# Altium integrated library PCB_Project1.IntLib: 17 symbols
Pins are listed as number, name and electrical type; pins without a type are passive.

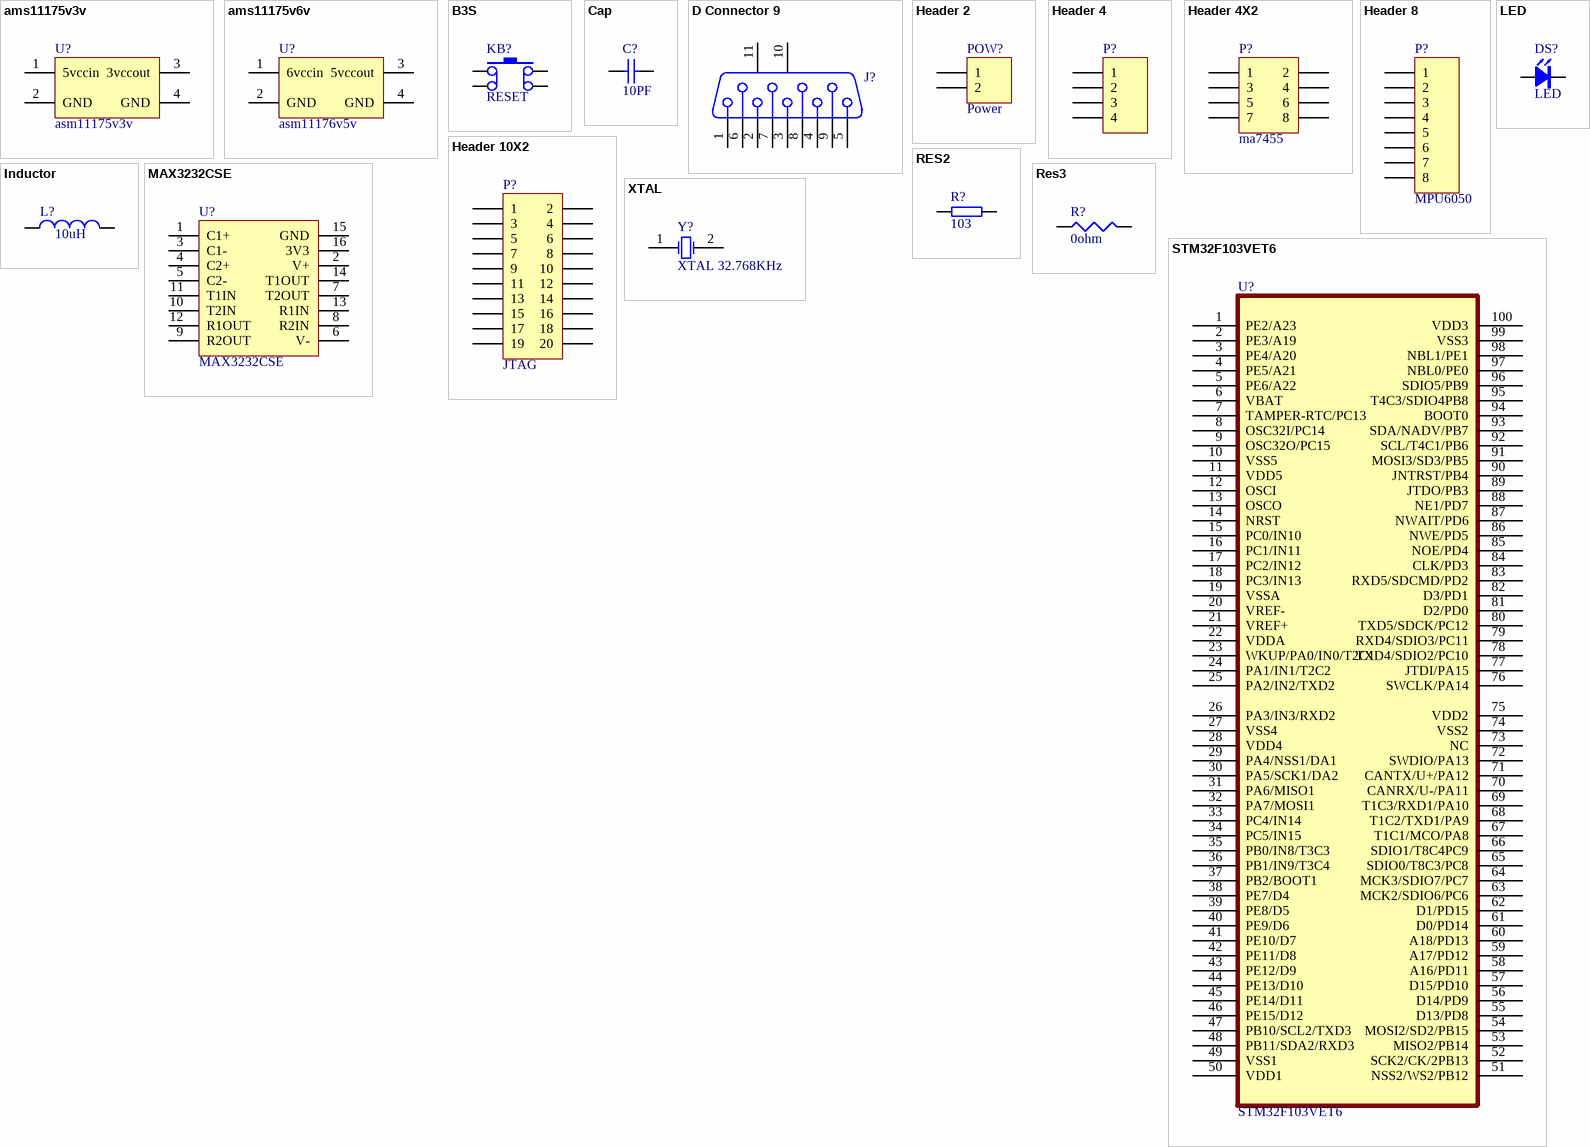
[diagram p0: symbols ams11175v3v to XTAL]

## ams11175v3v
designator U?, comment asm11175v3v
5vת3v
footprint ams11175v3v (6vת5v)
pins: 1 5vccin (power), 2 GND (power), 3 3vccout (power), 4 GND (power)

## ams11175v6v
designator U?, comment asm11176v5v
6vת5v
footprint ams11176v5v (6vת5v)
pins: 1 6vccin (power), 2 GND (power), 3 5vccout (power), 4 GND (power)

## B3S
designator KB?, comment RESET
REV: *; REF: *; DESIG: *; BOI: *; FAB: *; DEV: *; VAL: *
footprint B3F
footprint JC5
footprint KB2
footprint KB1
pins: 1 T1, 2 T2, 3 T3, 4 T4
2 alternate drawings of the same symbol

## Cap
designator C?, comment 10PF
Capacitor; Published: 8-Jun-2000; LatestRevisionDate: 17-Jul-2002; LatestRevisionNote: Re-released for DXP Platform.; PackageReference: RAD-0.3; Publisher: Altium Limited; Value: 10PF
footprint RAD-0.3 (Capacitor; 2 Leads)
footprint VP32-3.2 (Capacitor, Ceramic, Thru-Hole, Dipped Radial; Body 5.1 x 3.2 mm (WxT) Pin Spacing 2.54 mm (typ))
footprint VP45-3.2 (Capacitor, Ceramic, Thru-Hole, Dipped Radial; Body 7.8 x 3.2 mm (WxT) Pin Spacing 5.08 mm (typ))
simulation model CAP (Capacitor)
signal-integrity model Cap
pins: 1, 2

## D Connector 9
designator J?  (value not drawn)
Receptacle Assembly, 9 Position, Right Angle; PackageDocument: O; Positions: 9; Published: 15-Jun-2001; LatestRevisionDate: 17-Jul-2002; LatestRevisionNote: Re-released for DXP Platform.; DatasheetDocument: 1-Sep-1999; PackageReference: 788750; Publisher: Altium Limited; Orientation: Right Angle; Gender: Receptacle
footprint DSUB1.385-2H9 (Connector; D Subminiature; 9 Position; Right Angle; Pitch 1.385 mm)
signal-integrity model Connector
pins: 1, 2, 3, 4, 5, 6, 7, 8, 9, 10 MH1, 11 MH2

## Header 2
designator POW?, comment Power
Header, 2-Pin; LatestRevisionDate: 17-Jul-2002; LatestRevisionNote: Re-released for DXP Platform.; Publisher: Altium Limited
footprint HDR1X2 (Connector; Header; 2 Position)
footprint HDR1X2H
footprint CONNECT2
footprint JUMP
footprint TJC3-2A
footprint EDG3.5-2
pins: 1, 2

## Header 4
designator P?, comment bluetooth1  (value not drawn)
Header, 4-Pin; LatestRevisionDate: 17-Jul-2002; LatestRevisionNote: Re-released for DXP Platform.; Publisher: Altium Limited
footprint HDR1X4 (Connector; Header; 4 Position)
signal-integrity model Connector
pins: 1, 2, 3, 4

## Header 4X2
designator P?, comment ma7455
Header, 4-Pin, Dual row; LatestRevisionDate: 17-Jul-2002; LatestRevisionNote: Re-released for DXP Platform.; Publisher: Altium Limited
footprint HDR2X4 (Connector; Header; 4x2 Position)
signal-integrity model Connector
pins: 1, 2, 3, 4, 5, 6, 7, 8

## Header 8
designator P?, comment MPU6050
Header, 8-Pin; LatestRevisionDate: 17-Jul-2002; LatestRevisionNote: Re-released for DXP Platform.; Publisher: Altium Limited
footprint HDR1X8 (Connector; Header; 8 Position)
signal-integrity model Connector
pins: 1, 2, 3, 4, 5, 6, 7, 8

## Header 10X2
designator P?, comment JTAG
Header, 10-Pin, Dual row; LatestRevisionDate: 17-Jul-2002; LatestRevisionNote: Re-released for DXP Platform.; Publisher: Altium Limited
footprint HDR2X10 (Connector; Header; 10x2 Position)
signal-integrity model Connector
pins: 1, 2, 3, 4, 5, 6, 7, 8, 9, 10, 11, 12, 13, 14, 15, 16, 17, 18, 19, 20

## Inductor
designator L?, comment 10uH
Inductor; Code_IEC: 1005; Published: 8-Jun-2000; LatestRevisionDate: 17-Jul-2002; LatestRevisionNote: Re-released for DXP Platform.; PackageReference: 0402-A; Publisher: Altium Limited; Code_JEITA: 0402; Value: 10uH
footprint 0402-A (Chip Inductor; Body 1 x 0.5 mm (LxW typ))
footprint L0603 (Chip Inductor; Body 1.6 x 0.8 mm (LxW typ))
footprint 2012_Chip (2012 Chip; Chip Inductor; Body 2.0 x 1.2 mm (LxW typ))
footprint 2029 (Chip Inductor; Body 2 x 1.2 mm (LxW typ))
footprint 3261 (3216 Chip; Chip Inductor; Body 3.2 x 1.6 mm (LxW typ))
footprint 4564_Chip (4564 Chip; Chip Inductor; Body 4.5 x 6.4 mm (LxW typ))
simulation model INDUCTOR (Inductor)
signal-integrity model Inductor
pins: 1, 2

## LED
designator DS?
footprint 0805D
footprint LED-3
footprint LED-5
footprint 0603D
pins: A 1, K 2

## MAX3232CSE
designator U?
footprint MAX3232CSE (SOP, 16-Leads, Body 10.0x4.0mm (max), Pitch 1.27mm, IPC Medium Density)
pins: 1 C1+, 2 V+, 3 C1-, 4 C2+, 5 C2-, 6 V-, 7 T2OUT, 8 R2IN, 9 R2OUT, 10 T2IN, 11 T1IN, 12 R1OUT, 13 R1IN, 14 T1OUT, 15 GND (power), 16 3V3 (power)

## RES2
designator R?, comment 103
Resistor
footprint 0603
footprint 0805
footprint 0402
pins: 1, 2

## Res3
designator R?, comment 0ohm
Resistor; Value: 1K; Published: 8-Jun-2000; LatestRevisionDate: 04-Mar-2005; LatestRevisionNote: PCB Footprint replaced.; PackageReference: J1-0603; Publisher: Altium Limited
footprint J1-0603 (Chip Resistor; Body 1.6 x 0.8 mm (LxW typ))
footprint 3225[1210] (Chip Resistor; Body 3.2 x 2.5 mm (LxW typ))
footprint 5025[2010] (Chip Resistor; Body 5.0 x 2.5 mm (LxW typ))
footprint 6332[2512] (Chip Resistor; Body 6.3 x 3.2 mm (LxW typ))
simulation model RESISTOR (Resistor)
signal-integrity model Res
pins: 1, 2

## STM32F103VET6
designator U?
ST High-density performance line ARM-based 32-bit MCU with 256 to  512KB Flash, USB, CAN, 11 timers, 3 ADCs, 13 communication interfaces
footprint TQFP-100
pins: 1 PE2/A23, 2 PE3/A19, 3 PE4/A20, 4 PE5/A21, 5 PE6/A22, 6 VBAT, 7 TAMPER-RTC/PC13, 8 OSC32I/PC14, 9 OSC32O/PC15, 10 VSS5, 11 VDD5, 12 OSCI, 13 OSCO, 14 NRST, 15 PC0/IN10, 16 PC1/IN11, 17 PC2/IN12, 18 PC3/IN13, 19 VSSA, 20 VREF-, 21 VREF+, 22 VDDA, 23 WKUP/PA0/IN0/T2C1, 24 PA1/IN1/T2C2, 25 PA2/IN2/TXD2, 26 PA3/IN3/RXD2, 27 VSS4, 28 VDD4, 29 PA4/NSS1/DA1, 30 PA5/SCK1/DA2, 31 PA6/MISO1, 32 PA7/MOSI1, 33 PC4/IN14, 34 PC5/IN15, 35 PB0/IN8/T3C3, 36 PB1/IN9/T3C4, 37 PB2/BOOT1, 38 PE7/D4, 39 PE8/D5, 40 PE9/D6, 41 PE10/D7, 42 PE11/D8, 43 PE12/D9, 44 PE13/D10, 45 PE14/D11, 46 PE15/D12, 47 PB10/SCL2/TXD3, 48 PB11/SDA2/RXD3, 49 VSS1, 50 VDD1, 51 NSS2/WS2/PB12, 52 SCK2/CK/2PB13, 53 MISO2/PB14, 54 MOSI2/SD2/PB15, 55 D13/PD8, 56 D14/PD9, 57 D15/PD10, 58 A16/PD11, 59 A17/PD12, 60 A18/PD13, 61 D0/PD14, 62 D1/PD15, 63 MCK2/SDIO6/PC6, 64 MCK3/SDIO7/PC7, 65 SDIO0/T8C3/PC8, 66 SDIO1/T8C4PC9, 67 T1C1/MCO/PA8, 68 T1C2/TXD1/PA9, 69 T1C3/RXD1/PA10, 70 CANRX/U-/PA11, 71 CANTX/U+/PA12, 72 SWDIO/PA13, 73 NC, 74 VSS2, 75 VDD2, 76 SWCLK/PA14, 77 JTDI/PA15, 78 TXD4/SDIO2/PC10, 79 RXD4/SDIO3/PC11, 80 TXD5/SDCK/PC12, 81 D2/PD0, 82 D3/PD1, 83 RXD5/SDCMD/PD2, 84 CLK/PD3, 85 NOE/PD4, 86 NWE/PD5, 87 NWAIT/PD6, 88 NE1/PD7, 89 JTDO/PB3, 90 JNTRST/PB4, 91 MOSI3/SD3/PB5, 92 SCL/T4C1/PB6, 93 SDA/NADV/PB7, 94 BOOT0, 95 T4C3/SDIO4PB8, 96 SDIO5/PB9, 97 NBL0/PE0, 98 NBL1/PE1, 99 VSS3, 100 VDD3

## XTAL
designator Y?, comment XTAL 32.768KHz
Crystal Oscillator; Published: 8-Jun-2000; LatestRevisionDate: 17-Jul-2002; LatestRevisionNote: Re-released for DXP Platform.; PackageReference: R38; Publisher: Altium Limited
footprint R38 (Crystal, Thru-Hole; 2 Leads; Body 3.1 x 8.2 mm (Dia.xH))
simulation model XTAL (Spice Subcircuit)
pins: 1 OSC1, 2 OSC2